# Altium schematic symbol library HZK_Device.SchLib: 61 symbols
Pins are listed as number, name and electrical type; pins without a type are passive.

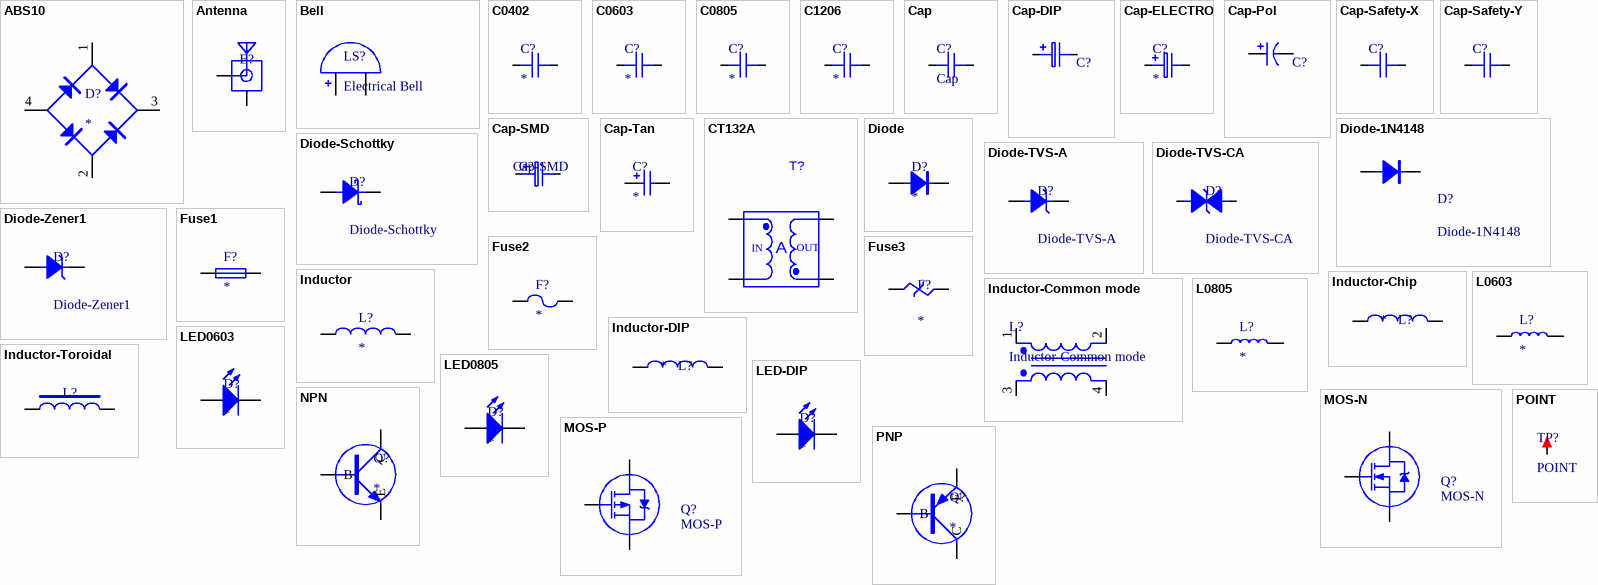
[diagram p0: symbols ABS10 to POINT]

## ABS10
designator D?
整流桥
footprint ABS10 (8.5*10.1*3mm(长宽高))
pins: 1 AC, 2 AC, 3 V+, 4 V-

## Antenna
designator E?
天线
footprint ANT-SMA-KE-LI (SMA立式直插射频天线座)
footprint ANT-SMA_FR (SMA 90度射频天线座)
footprint ANT-SMA-KE (SMA偏脚射频天线座)
pins: 1, 2 (power)

## Bell
designator LS?, comment Electrical Bell
蜂鸣器
footprint Bell
pins: 1 A, 2 B

## C0402
designator C?
footprint C0402
pins: 1, 2

## C0603
designator C?
footprint C0603
pins: 1, 2

## C0805
designator C?
footprint C0805
pins: 1, 2

## C1206
designator C?
footprint C1206
pins: 1, 2

## Cap
designator C?
无极性电容
pins: 1, 2

## Cap-DIP
designator C?
直插铝电解电容
footprint Cap-DIP-4*8 (立式直插电解电容，脚距1.5mm，直径4mm，高度8mm)
footprint Cap-DIP-5*11 (立式直插电解电容，脚距2mm，直径5mm，高度11mm)
footprint Cap-DIP-6.3*11.2 (立式直插电解电容，脚距2.5mm，直径6.3mm，高度11.2mm)
footprint Cap-DIP-8*11.5 (立式直插电解电容，脚距3.5mm。直径8mm。高度11.5mm)
footprint Cap-DIP-10*12.5 (立式直插电解电容，脚距5mm，直径10mm，高度12.5mm)
footprint Cap-DIP-12.5*20 (立式直插电解电容，脚距5mm，直径12.5mm，高度20mm)
footprint Cap-DIP-16*25 (立式直插电解电容，脚距7.5mm，直径16mm，高度25mm)
pins: 1, 2

## Cap-ELECTRO
designator C?
电解电容
pins: 1, 2

## Cap-Pol
designator C?
极性电容
pins: 1, 2

## Cap-Safety-X
designator C?
安规电容，X电容
footprint Cap-X-10*13*11 (X电容，脚距10mm高13mm厚11mm)
footprint Cap-X-15*18*11 (X电容，脚距15mm高18mm厚11mm)
pins: 1, 2

## Cap-Safety-Y
designator C?
安规电容，Y电容
footprint Cap-Y-5*7*2.5 (Y电容，脚距5mm，直径7mm，厚2.5mm)
footprint Cap-Y-7.5*10*4 (Y电容，脚距7.5mm，直径10mm，厚4mm)
footprint Cap-Y-10*14*5 (Y电容，脚距10mm，直径14mm，厚5mm)
pins: 1, 2

## Cap-SMD
designator C?
贴片铝电解电容; Published: 8-Jun-2000; LatestRevisionDate: 17-Jul-2002; LatestRevisionNote: Re-released for DXP Platform.; PackageReference: RB7.6-15; Publisher: Altium Limited; PackageDescription: Polarized Capacitor (Radial); 2 Leads
footprint CAP-SMD-5*5.4 (贴片电解电容，直径5mm，高5.4mm)
footprint CAP-SMD-4*5.4 (贴片电解电容，直径4mm，高5.4mm)
footprint CAP-SMD-6.3*5.4 (贴片电解电容，直径6.3mm，高5.4mm)
footprint CAP-SMD-6.3*7.7 (贴片电解电容，直径6.3mm，高7.7mm)
footprint CAP-SMD-8*6.5 (贴片电解电容，直径8mm，高6.5mm)
footprint CAP-SMD-8*10.2 (贴片电解电容，直径8mm，高10.2mm)
footprint CAP-SMD-10*10.2 (贴片电解电容，直径10mm，高10.2mm)
pins: 1, 2
1 alternate drawing of the same symbol

## Cap-Tan
designator C?
钽电容
footprint Cap-Tan-A(3216) (长3.2mm，宽1.6mm，厚1.6mm)
footprint Cap-Tan-B(3528) (长3.5mm，宽2.8mm，厚1.9mm)
footprint Cap-Tan-C(6032) (长6.0mm，宽3.2mm，厚2.5mm)
footprint Cap-Tan-D(7343) (长7.3mm，宽4.3mm，厚2.8mm)
footprint Cap-Tan-E(7343H) (长7.3mm，宽4.3mm，厚4.0mm)
footprint Cap-Tan-S(2012) (长2.0mm，宽1.25mm，厚1.2mm)
pins: 1, 2

## CT132A
designator T?
微型电流互感器
footprint CTT132A (微型电流互感器)
pins: 1, 2, 3, 4
text: IN; A; OUT

## Diode
designator D?
普通二极管
footprint Diode-MELF (LL34) (直径1.5mm，脚距3.4mm)
footprint Diode-SOD-123 (2.7x1.6X1.1mm（长宽高，不包括引脚）)
footprint Diode-SMA (4.5x2.6*2.2mm（长宽高，不包括引脚）)
pins: 1 A, 2 K

## Diode-1N4148
designator D?
点接触型的小电流高频开关二极管
footprint Diode-MELF (LL34) (直径1.5mm，脚距3.4mm)
pins: 1 A, 2 K

## Diode-Schottky
designator D?
肖特基二极管; Published: 8-Jun-2000; LatestRevisionDate: 17-Jul-2002; LatestRevisionNote: Re-released for DXP Platform.; PackageReference: SMB; Publisher: Altium Limited; PackageDescription: DO-214-AA/SMB; 2 C-Bend Leads; Body 5.3 x 3.6 mm, inc. leads (LxW); Code_JEDEC: DO-214-AA
footprint Diode-SMA (4.5x2.6*2.2mm（长宽高，不包括引脚）)
footprint Diode-SOD-523 (1.2x0.8X0.6mm（长宽高，不包括引脚）)
pins: 1 A, 2 K

## Diode-TVS-A
designator D?
单向TVS瞬态抑制二极管; Published: 8-Jun-2000; LatestRevisionDate: 17-Jul-2002; LatestRevisionNote: Re-released for DXP Platform.; PackageReference: DIODE-0.7; Publisher: Altium Limited; PackageDescription: Diode, Thru-Hole; 2 Leads; 0.7 in Pin Spacing
footprint Diode-SMA (4.5x2.6*2.2mm（长宽高，不包括引脚）)
pins: 1 A, 2 K

## Diode-TVS-CA
designator D?
双向TVS瞬态抑制二极管; Published: 8-Jun-2000; LatestRevisionDate: 17-Jul-2002; LatestRevisionNote: Re-released for DXP Platform.; PackageReference: DIODE-0.7; Publisher: Altium Limited; PackageDescription: Diode, Thru-Hole; 2 Leads; 0.7 in Pin Spacing
pins: 1 A, 2 K

## Diode-Zener1
designator D?
稳压二极管; Published: 8-Jun-2000; LatestRevisionDate: 17-Jul-2002; LatestRevisionNote: Re-released for DXP Platform.; PackageReference: DIODE-0.7; Publisher: Altium Limited; PackageDescription: Diode, Thru-Hole; 2 Leads; 0.7 in Pin Spacing
pins: 1 A, 2 K

## Fuse1
designator F?
保险丝
footprint FU-5x20 (5*20保险管底座夹子)
footprint FU-BLX-A (BLX-A型保险丝座)
footprint FU-392 (方形保险丝)
pins: 1, 2

## Fuse2
designator F?
保险丝
pins: 1, 2

## Fuse3
designator F?
保险丝
pins: 1, 2

## Inductor
designator L?
电感
pins: 1, 2

## Inductor-Chip
designator L?
贴片功率电感; Code_IEC: 1005; Published: 8-Jun-2000; LatestRevisionDate: 29-May-2009; LatestRevisionNote: IPC-7351 Footprint Added.; PackageReference: 0402-A; Publisher: Altium Limited; PackageDescription: Chip Inductor; Code_JEITA: 0402
footprint IN-CD54 (5.8*5.2*4.5mm)
footprint IN-CDRH73
footprint IN-NR2520 (2.5mm*2.0mm*1.0mm(长*宽*高）)
pins: 1, 2

## Inductor-Common mode
designator L?
共模电感; 版: 源创客; 学习资源: www.ooocke.com
footprint IN-UU9.8 (17*12*17mm(长宽高）)
footprint IN-UU10.5 (18*16*20mm(长宽高）)
footprint IN-UU16 (22*17.5*23mm(长宽高）)
pins: 1, 2, 3, 4

## Inductor-DIP
designator L?
直插功率电感; Code_IEC: 1005; Published: 8-Jun-2000; LatestRevisionDate: 29-May-2009; LatestRevisionNote: IPC-7351 Footprint Added.; PackageReference: 0402-A; Publisher: Altium Limited; PackageDescription: Chip Inductor; Code_JEITA: 0402
footprint IN-PK0810 (5*9*12mm(脚距，直径，高）)
pins: 1, 2

## Inductor-Toroidal
designator L?
环形电感
footprint IN-LMR135 (磁环电感，外径13mm，厚度5mm)
pins: 1, 2

## L0603
designator L?
贴片磁珠
footprint L0603
pins: 1, 2

## L0805
designator L?
贴片磁珠
footprint L0805
pins: 1, 2

## LED0603
designator D?
footprint LED0603
pins: 1 A, 2 K

## LED0805
designator D?
footprint LED0805
pins: 1 A, 2 K

## LED-DIP
designator D?
footprint LED 3MM-W (白色3mm直插LED)
footprint LED 5MM-W (白色5mm直插LED)
pins: 1 A, 2 K

## MOS-N
designator Q?
N-Channel Power MOSFET; Note: Pin 2 is electrically connected to pin 4.; Published: 8-Jun-2000; LatestRevisionDate: 17-Jul-2002; LatestRevisionNote: Re-released for DXP Platform.; DatasheetVersion: PD-9.814; PackageVersion: Feb-1997; PackageReference: TO-220AB; Publisher: Altium Limited; PackageDescription: TO, Thru-Hole, Vertical, Heatsink Mounted; 3 In-Line Leads; Pitch 2.54 mm; ComponentLink1Description: Manufacturer Link; ComponentLink1URL: http://www.irf.com/
footprint D-PAK
footprint TO-220AB (TO, Thru-Hole, Vertical, Heatsink Mounted; 3 In-Line Leads; Pitch 2.54 mm)
footprint SOT-23; pin to pad 2>3 3>2
pins: 1 G, 2 D, 3 S

## MOS-P
designator Q?
P-Channel Power MOSFET; Note: Pin 4 not drawn and electrically connected to Pin 2.; Published: 8-Jun-2000; LatestRevisionDate: 17-Jul-2002; LatestRevisionNote: Re-released for DXP Platform.; DatasheetVersion: PD-9.390D; PackageVersion: Feb-1997; PackageReference: TO-220AB; Publisher: Altium Limited; PackageDescription: TO, Thru-Hole, Vertical, Heatsink Mounted; 3 In-Line Leads; Pitch 2.54 mm; ComponentLink1Description: Manufacturer Link; ComponentLink1URL: http://www.irf.com/
footprint D-PAK
footprint TO-220AB (TO, Thru-Hole, Vertical, Heatsink Mounted; 3 In-Line Leads; Pitch 2.54 mm)
footprint SOT-23; pin to pad 2>3 3>2
pins: 1 G, 2 D, 3 S

## NPN
designator Q?
NPN Transistor
footprint SOT-23
pins: 1 B, 2 E, 3 C

## PNP
designator Q?
PNP Transistor
footprint SOT-23
pins: 1 B, 2 E, 3 C

## POINT
designator TP?
测试点
footprint POINT-0.8 (测试点，直径0.8mm)
footprint POINT-1.0 (测试点，直径1mm)
pins: 1

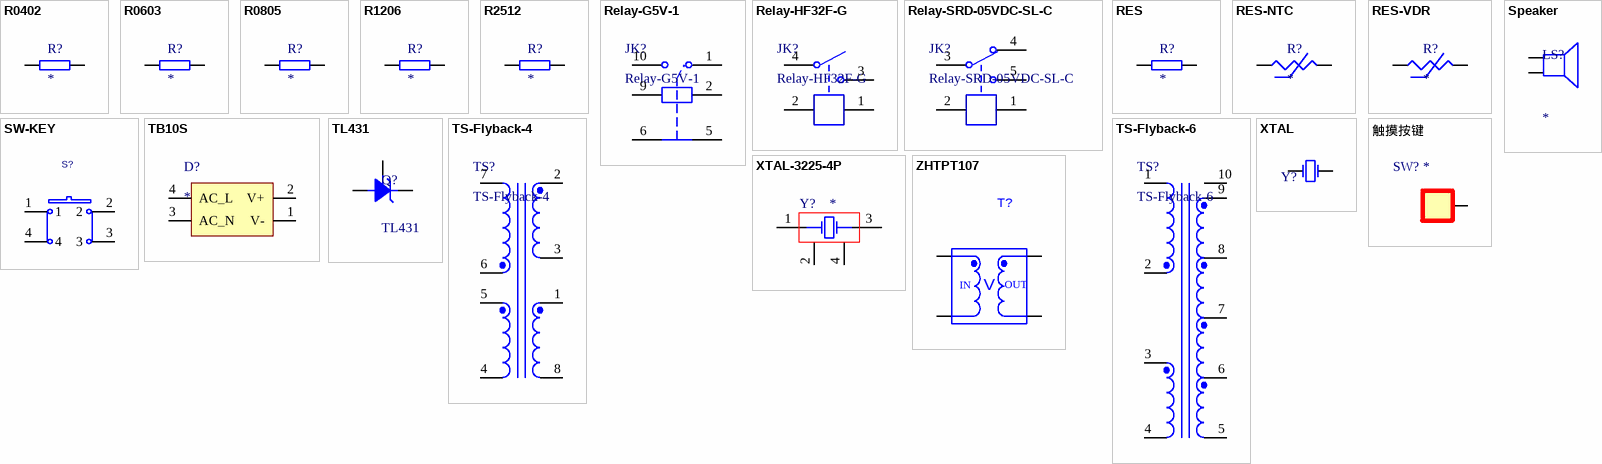
[diagram p1: symbols R0402 to 触摸按键]

## R0402
designator R?
footprint R0402
pins: 1, 2

## R0603
designator R?
footprint R0603
pins: 1, 2

## R0805
designator R?
footprint R0805
pins: 1, 2

## R1206
designator R?
footprint R1206
pins: 1, 2

## R2512
designator R?
footprint R2512
pins: 1, 2

## Relay-G5V-1
designator JK?
1路常开继电器; B: 5V继电器; 学习?: www.ooocke.com
footprint JZC-32F_1H (单刀常开,长：18.4mm，宽：10.2mm，高：15.3mm)
pins: 1, 2, 5, 6, 9, 10

## Relay-HF32F-G
designator JK?
1路常开继电器; B: 5V继电器; 学习?: www.ooocke.com
footprint JZC-32F_1H (单刀常开,长：18.4mm，宽：10.2mm，高：15.3mm)
pins: 1, 2, 3, 4

## Relay-SRD-05VDC-SL-C
designator JK?
5V单路双控继电器; B: 5V继电器; 学习?: www.ooocke.com
footprint SRD-C_B (单刀双投继电器)
pins: 1, 2, 3, 4, 5

## RES
designator R?
普通电阻
pins: 1, 2

## RES-NTC
designator R?
热敏电阻
pins: 1, 2

## RES-VDR
designator R?
压敏电阻
footprint RES-10D (压敏电阻10D)
pins: 1, 2

## Speaker
designator LS?
扬声器
footprint XH2.54-LI-2P (接插件，2P)
pins: 1, 2

## SW-KEY
designator S?  (value not drawn)
微动开关按键; Manufacturer #1 PN: KEY; PCB DECAL: SW6.2/6.2-SMD
footprint SW-KEY-DIP-6*6*5 (微动开关按键6*6*5mm)
footprint SW-KEY-SMD-4_5x4_5 (贴片微动开关按键4.5x4.5mm)
pins: 1, 2, 3, 4

## TB10S
designator D?
整流桥
pins: 1 V-, 2 V+, 3 AC_N, 4 AC_L

## TL431
designator Q?
三端稳压管; Published: 8-Jun-2000; LatestRevisionDate: 17-Jul-2002; LatestRevisionNote: Re-released for DXP Platform.; PackageReference: DIODE-0.7; Publisher: Altium Limited; PackageDescription: Diode, Thru-Hole; 2 Leads; 0.7 in Pin Spacing
pins: 1 R, 2 K, 3 A

## TS-Flyback-4
designator TS?
四匝反激式变压器; 版: 源创客; 学习资源: www.ooocke.com
footprint TS-Flyback-4 (四匝反激式变压器)
pins: 1, 2, 3, 4, 5, 6, 7, 8

## TS-Flyback-6
designator TS?
六匝反激式变压器; 版: 源创客; 学习资源: www.ooocke.com
pins: 1, 2, 3, 4, 5, 6, 7, 8, 9, 10

## XTAL
designator Y?
两脚无源晶振; Published: 8-Jun-2000; LatestRevisionDate: 17-Jul-2002; LatestRevisionNote: Re-released for DXP Platform.; Publisher: Altium Limited
footprint XTAL-HC-49S (两脚直插石英无源晶振)
footprint XTAL-HC-49SMD (两脚贴片石英无源晶振)
footprint XTAL-MC146
footprint XTAL-206-LI (直插脚圆柱无源晶振，脚距：1.6mm)
footprint XTAL-206-WI-A (直插脚圆柱无源晶振，脚距：1.6mm)
footprint XTAL-206-WI-B (直插脚圆柱无源晶振，脚距：1.6mm)
footprint XTAL-5032-2P (5mm*3.2mm*0.8mm(长*宽*高))
footprint XTAL-MC-306; pin to pad 2>4
pins: 1 OSC1, 2 OSC2

## XTAL-3225-4P
designator Y?
Crystal Oscillator; Published: 8-Jun-2000; LatestRevisionDate: 17-Jul-2002; LatestRevisionNote: Re-released for DXP Platform.; Publisher: Altium Limited
footprint XTAL-3225-4P (3.2*2.5*0.7mm(长宽高))
pins: 1 VCONT, 2 GND, 3 OUTPUT, 4 VCC

## ZHTPT107
designator T?
微型电压互感器
footprint ZHT107M (微型电压互感器)
pins: 1, 2, 3, 4
text: IN; V; OUT

## 触摸按键
designator SW?
Published: 8-Jun-2000; LatestRevisionDate: 17-Jul-2002; LatestRevisionNote: Re-released for DXP Platform.; Publisher: Altium Limited
footprint SW-F10*8 (喇叭口双针脚触摸弹簧)
pins: 1